# Altium footprint library Connector_FFC-FPC.PcbLib: 184 footprints (part 3 of 12)
Each footprint in its own frame and in the unit in brackets; x right, y up, seen from the top. Pads: shape width x height; smd on the part's side, far side on the other; paste and mask are expansions set on the pad; w line width, h text height; cw(c..) or ccw(c..) is an arc to the next point about the centre after c.
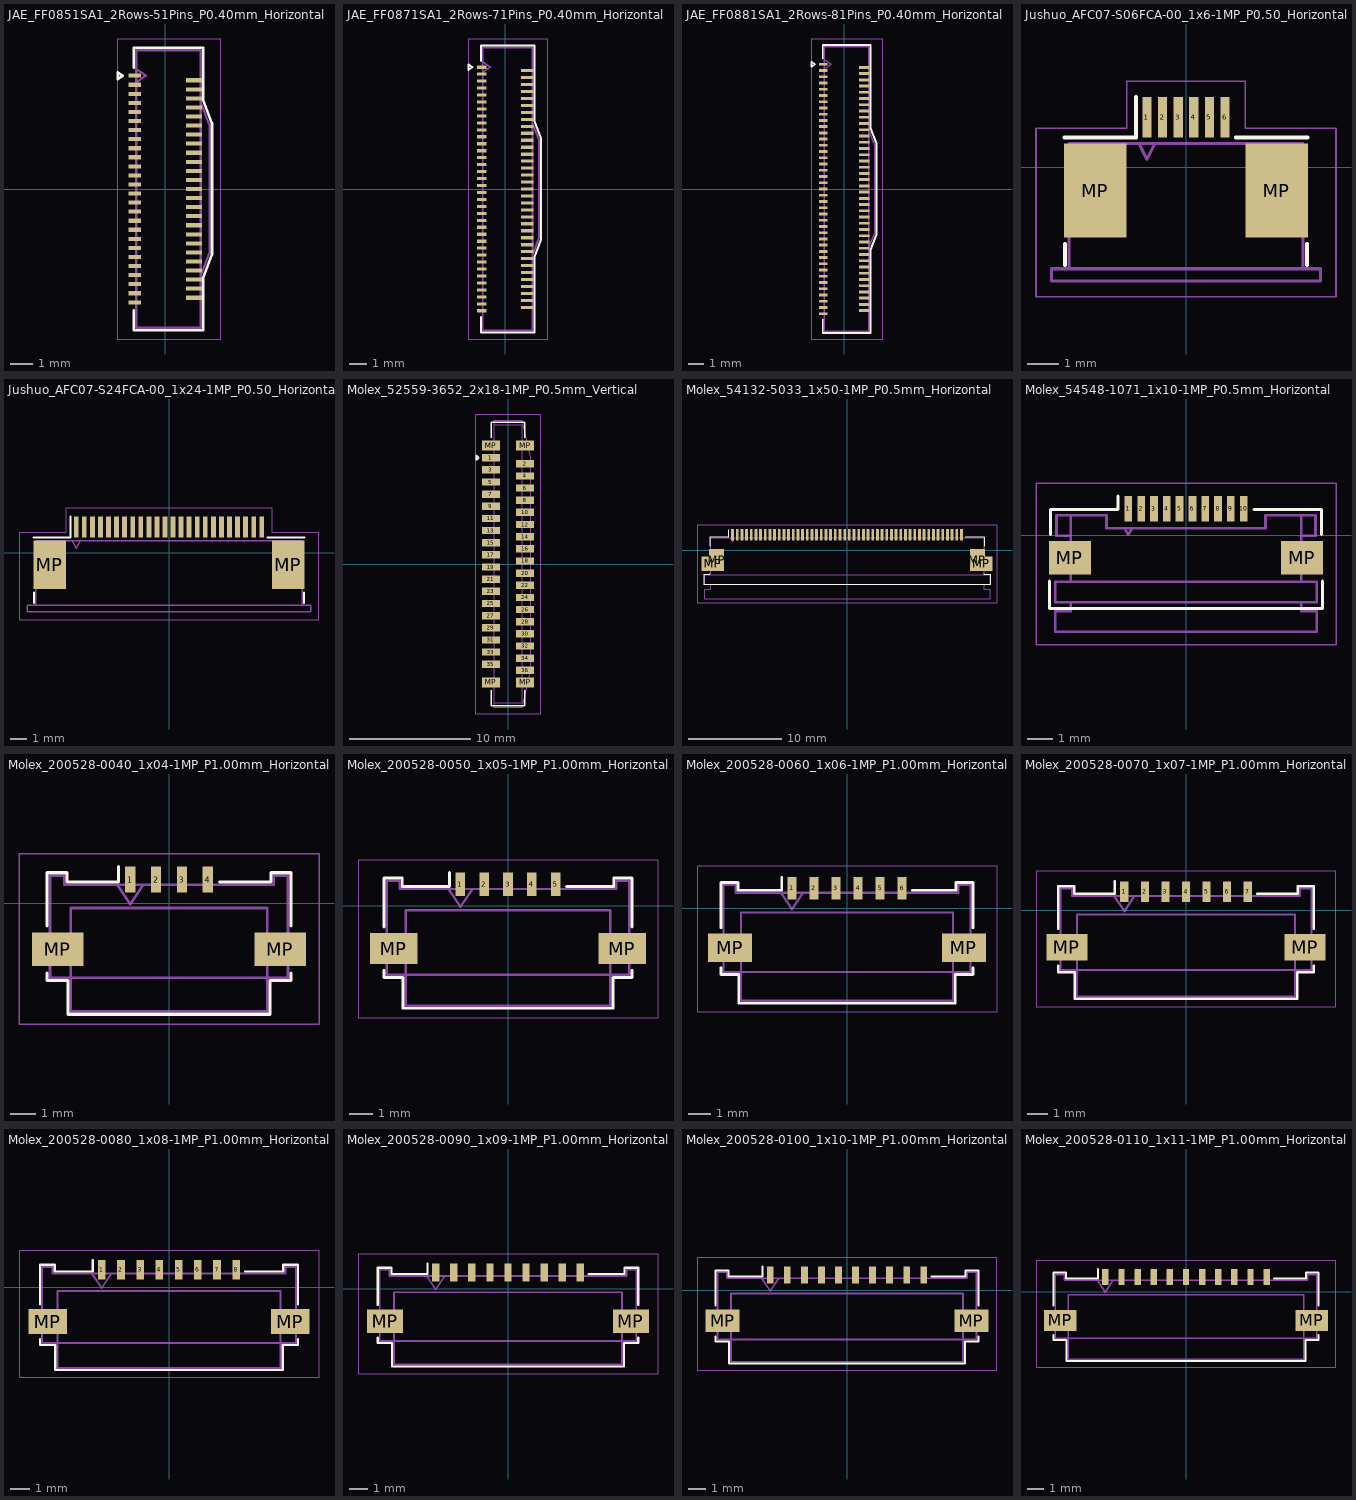
[diagram p2: the footprints below, top view; thin cyan lines are the x and y axes]

## JAE_FF0851SA1_2Rows-51Pins_P0.40mm_Horizontal [mm]
pads (51):
  rect 0.55x0.18 smd: 1(-1.35,5) 3(-1.35,4.6) 5(-1.35,4.2) 7(-1.35,3.8) 9(-1.35,3.4) 11(-1.35,3) 13(-1.35,2.6) 15(-1.35,2.2) 17(-1.35,1.8) 19(-1.35,1.4) 21(-1.35,1) 23(-1.35,0.6) 25(-1.35,0.2) 27(-1.35,-0.2) 29(-1.35,-0.6) 31(-1.35,-1) 33(-1.35,-1.4) 35(-1.35,-1.8) 37(-1.35,-2.2) 39(-1.35,-2.6) 41(-1.35,-3) 43(-1.35,-3.4) 45(-1.35,-3.8) 47(-1.35,-4.2) 49(-1.35,-4.6) 51(-1.35,-5)
  rect 0.7x0.18 smd: 2(1.275,4.8) 4(1.275,4.4) 6(1.275,4) 8(1.275,3.6) 10(1.275,3.2) 12(1.275,2.8) 14(1.275,2.4) 16(1.275,2) 18(1.275,1.6) 20(1.275,1.2) 22(1.275,0.8) 24(1.275,0.4) 26(1.275,0) 28(1.275,-0.4) 30(1.275,-0.8) 32(1.275,-1.2) 34(1.275,-1.6) 36(1.275,-2) 38(1.275,-2.4) 40(1.275,-2.8) 42(1.275,-3.2) 44(1.275,-3.6) 46(1.275,-4) 48(1.275,-4.4) 50(1.275,-4.8)
F.SilkS:
  lines w0.12: -1.385,-5.35 -1.385,-6.235 1.685,-6.235 1.685,-3.91 2.065,-2.91 2.065,0 2.065,2.91 1.685,3.91 1.685,6.235 -1.385,6.235 -1.385,5.35 ; -2.097,4.85 -2.097,5.15 -1.885,5 -2.097,4.85
F.CrtYd:
  lines w0.05: -2.12,-6.62 2.46,-6.62 2.46,6.62 -2.12,6.62 -2.12,-6.62
F.Fab:
  lines w0.1: -1.275,4.7 -0.851,5 -1.275,5.3 ; 1.575,-3.8 1.955,-2.8 1.955,2.8 1.575,3.8 ; -1.275,-6.125 -1.275,6.125 1.575,6.125 1.575,-6.125 -1.275,-6.125
  text "'.Designator'" at 1.62,-2.877 h0.71

## JAE_FF0871SA1_2Rows-71Pins_P0.40mm_Horizontal [mm]
pads (71):
  rect 0.55x0.18 smd: 1(-1.35,7) 3(-1.35,6.6) 5(-1.35,6.2) 7(-1.35,5.8) 9(-1.35,5.4) 11(-1.35,5) 13(-1.35,4.6) 15(-1.35,4.2) 17(-1.35,3.8) 19(-1.35,3.4) 21(-1.35,3) 23(-1.35,2.6) 25(-1.35,2.2) 27(-1.35,1.8) 29(-1.35,1.4) 31(-1.35,1) 33(-1.35,0.6) 35(-1.35,0.2) 37(-1.35,-0.2) 39(-1.35,-0.6) 41(-1.35,-1) 43(-1.35,-1.4) 45(-1.35,-1.8) 47(-1.35,-2.2) 49(-1.35,-2.6) 51(-1.35,-3) 53(-1.35,-3.4) 55(-1.35,-3.8) 57(-1.35,-4.2) 59(-1.35,-4.6) 61(-1.35,-5) 63(-1.35,-5.4) 65(-1.35,-5.8) 67(-1.35,-6.2) 69(-1.35,-6.6) 71(-1.35,-7)
  rect 0.7x0.18 smd: 2(1.275,6.8) 4(1.275,6.4) 6(1.275,6) 8(1.275,5.6) 10(1.275,5.2) 12(1.275,4.8) 14(1.275,4.4) 16(1.275,4) 18(1.275,3.6) 20(1.275,3.2) 22(1.275,2.8) 24(1.275,2.4) 26(1.275,2) 28(1.275,1.6) 30(1.275,1.2) 32(1.275,0.8) 34(1.275,0.4) 36(1.275,0) 38(1.275,-0.4) 40(1.275,-0.8) 42(1.275,-1.2) 44(1.275,-1.6) 46(1.275,-2) 48(1.275,-2.4) 50(1.275,-2.8) 52(1.275,-3.2) 54(1.275,-3.6) 56(1.275,-4) 58(1.275,-4.4) 60(1.275,-4.8) 62(1.275,-5.2) 64(1.275,-5.6) 66(1.275,-6) 68(1.275,-6.4) 70(1.275,-6.8)
F.SilkS:
  lines w0.12: -1.385,-7.35 -1.385,-8.235 1.685,-8.235 1.685,-3.91 2.065,-2.91 2.065,0 2.065,2.91 1.685,3.91 1.685,8.235 -1.385,8.235 -1.385,7.35 ; -2.097,6.85 -2.097,7.15 -1.885,7 -2.097,6.85
F.CrtYd:
  lines w0.05: -2.12,-8.62 -2.12,8.62 2.46,8.62 2.46,-8.62 -2.12,-8.62
F.Fab:
  lines w0.1: -1.275,6.7 -0.851,7 -1.275,7.3 ; 1.575,-3.8 1.955,-2.8 1.955,2.8 1.575,3.8 ; -1.275,-8.125 -1.275,8.125 1.575,8.125 1.575,-8.125 -1.275,-8.125
  text "'.Designator'" at 1.62,-2.877 h0.71

## JAE_FF0881SA1_2Rows-81Pins_P0.40mm_Horizontal [mm]
pads (81):
  rect 0.55x0.18 smd: 1(-1.35,8) 3(-1.35,7.6) 5(-1.35,7.2) 7(-1.35,6.8) 9(-1.35,6.4) 11(-1.35,6) 13(-1.35,5.6) 15(-1.35,5.2) 17(-1.35,4.8) 19(-1.35,4.4) 21(-1.35,4) 23(-1.35,3.6) 25(-1.35,3.2) 27(-1.35,2.8) 29(-1.35,2.4) 31(-1.35,2) 33(-1.35,1.6) 35(-1.35,1.2) 37(-1.35,0.8) 39(-1.35,0.4) 41(-1.35,0) 43(-1.35,-0.4) 45(-1.35,-0.8) 47(-1.35,-1.2) 49(-1.35,-1.6) 51(-1.35,-2) 53(-1.35,-2.4) 55(-1.35,-2.8) 57(-1.35,-3.2) 59(-1.35,-3.6) 61(-1.35,-4) 63(-1.35,-4.4) 65(-1.35,-4.8) 67(-1.35,-5.2) 69(-1.35,-5.6) 71(-1.35,-6) 73(-1.35,-6.4) 75(-1.35,-6.8) 77(-1.35,-7.2) 79(-1.35,-7.6) 81(-1.35,-8)
  rect 0.7x0.18 smd: 2(1.275,7.8) 4(1.275,7.4) 6(1.275,7) 8(1.275,6.6) 10(1.275,6.2) 12(1.275,5.8) 14(1.275,5.4) 16(1.275,5) 18(1.275,4.6) 20(1.275,4.2) 22(1.275,3.8) 24(1.275,3.4) 26(1.275,3) 28(1.275,2.6) 30(1.275,2.2) 32(1.275,1.8) 34(1.275,1.4) 36(1.275,1) 38(1.275,0.6) 40(1.275,0.2) 42(1.275,-0.2) 44(1.275,-0.6) 46(1.275,-1) 48(1.275,-1.4) 50(1.275,-1.8) 52(1.275,-2.2) 54(1.275,-2.6) 56(1.275,-3) 58(1.275,-3.4) 60(1.275,-3.8) 62(1.275,-4.2) 64(1.275,-4.6) 66(1.275,-5) 68(1.275,-5.4) 70(1.275,-5.8) 72(1.275,-6.2) 74(1.275,-6.6) 76(1.275,-7) 78(1.275,-7.4) 80(1.275,-7.8)
F.SilkS:
  lines w0.12: -1.385,-8.35 -1.385,-9.235 1.685,-9.235 1.685,-3.91 2.065,-2.91 2.065,0 2.065,2.91 1.685,3.91 1.685,9.235 -1.385,9.235 -1.385,8.35 ; -2.097,7.85 -2.097,8.15 -1.885,8 -2.097,7.85
F.CrtYd:
  lines w0.05: -2.12,-9.62 -2.12,9.62 2.46,9.62 2.46,-9.62 -2.12,-9.62
F.Fab:
  lines w0.1: -1.275,7.7 -0.851,8 -1.275,8.3 ; 1.575,-3.8 1.955,-2.8 1.955,2.8 1.575,3.8 ; -1.275,-9.125 -1.275,9.125 1.575,9.125 1.575,-9.125 -1.275,-9.125
  text "'.Designator'" at 1.62,-2.877 h0.71

## Jushuo_AFC07-S06FCA-00_1x6-1MP_P0.50_Horizontal [mm]
pads (8):
  rect 0.3x1.3 smd: 1(-1.25,1.6) 2(-0.75,1.6) 3(-0.25,1.6) 4(0.25,1.6) 5(0.75,1.6) 6(1.25,1.6)
  rect 2x3 smd: MP(-2.9,-0.75) MP(2.9,-0.75)
F.SilkS:
  lines w0.12: -3.9,0.95 -1.6,0.95 -1.6,2.25 ; -3.87,-3.13 -3.87,-2.45 ; 1.6,0.95 3.9,0.95 ; 3.87,-3.13 3.87,-2.45
F.CrtYd:
  lines w0.05: -4.8,-4.15 4.8,-4.15 4.8,1.25 1.9,1.25 1.9,2.75 -1.9,2.75 -1.9,1.25 -4.8,1.25 -4.8,-4.15
F.Fab:
  lines w0.1: -1.5,0.75 -1.25,0.25 -1,0.75 ; -3.75,-3.25 3.75,-3.25 ; -3.75,-3.25 -4.3,-3.25 -4.3,-3.65 4.3,-3.65 4.3,-3.25 3.75,-3.25 ; -3.75,-3.25 -3.75,0.75 3.75,0.75 3.75,-3.25
  text "'.Designator'" at -4.047,-2.24 h1

## Jushuo_AFC07-S24FCA-00_1x24-1MP_P0.50_Horizontal [mm]
pads (26):
  rect 0.3x1.3 smd: 1(-5.75,1.6) 2(-5.25,1.6) 3(-4.75,1.6) 4(-4.25,1.6) 5(-3.75,1.6) 6(-3.25,1.6) 7(-2.75,1.6) 8(-2.25,1.6) 9(-1.75,1.6) 10(-1.25,1.6) 11(-0.75,1.6) 12(-0.25,1.6) 13(0.25,1.6) 14(0.75,1.6) 15(1.25,1.6) 16(1.75,1.6) 17(2.25,1.6) 18(2.75,1.6) 19(3.25,1.6) 20(3.75,1.6) 21(4.25,1.6) 22(4.75,1.6) 23(5.25,1.6) 24(5.75,1.6)
  rect 2x3 smd: MP(-7.4,-0.75) MP(7.4,-0.75)
F.SilkS:
  lines w0.12: -8.4,0.95 -6.1,0.95 -6.1,2.25 ; -8.37,-3.13 -8.37,-2.45 ; 6.1,0.95 8.4,0.95 ; 8.37,-3.13 8.37,-2.45
F.CrtYd:
  lines w0.05: -9.3,-4.15 9.3,-4.15 9.3,1.25 6.4,1.25 6.4,2.75 -6.4,2.75 -6.4,1.25 -9.3,1.25 -9.3,-4.15
F.Fab:
  lines w0.1: -6,0.75 -5.75,0.25 -5.5,0.75 ; -8.25,-3.25 8.25,-3.25 ; -8.25,-3.25 -8.8,-3.25 -8.8,-3.65 8.8,-3.65 8.8,-3.25 8.25,-3.25 ; -8.25,-3.25 -8.25,0.75 8.25,0.75 8.25,-3.25
  text "'.Designator'" at -4.047,-2.24 h1

## Molex_52559-3652_2x18-1MP_P0.5mm_Vertical [mm]
pads (40):
  rect 1.5x0.6 smd: 1(-1.4,8.75) 2(1.4,8.25) 3(-1.4,7.75) 4(1.4,7.25) 5(-1.4,6.75) 6(1.4,6.25) 7(-1.4,5.75) 8(1.4,5.25) 9(-1.4,4.75) 10(1.4,4.25) 11(-1.4,3.75) 12(1.4,3.25) 13(-1.4,2.75) 14(1.4,2.25) 15(-1.4,1.75) 16(1.4,1.25) 17(-1.4,0.75) 18(1.4,0.25) 19(-1.4,-0.25) 20(1.4,-0.75) 21(-1.4,-1.25) 22(1.4,-1.75) 23(-1.4,-2.25) 24(1.4,-2.75) 25(-1.4,-3.25) 26(1.4,-3.75) 27(-1.4,-4.25) 28(1.4,-4.75) 29(-1.4,-5.25) 30(1.4,-5.75) 31(-1.4,-6.25) 32(1.4,-6.75) 33(-1.4,-7.25) 34(1.4,-7.75) 35(-1.4,-8.25) 36(1.4,-8.75)
  rect 1.5x0.8 smd: MP(-1.4,-9.75) MP(-1.4,9.75) MP(1.4,-9.75) MP(1.4,9.75)
F.SilkS:
  lines w0.12: -1.38,-10.41 -1.38,-11.68 1.38,-11.68 1.38,-10.41 ; -1.38,10.41 -1.38,11.68 1.38,11.68 1.38,10.41 ; -2.61,8.55 -2.41,8.75 -2.61,8.95 -2.61,8.55
F.CrtYd:
  lines w0.05: -2.65,-12.35 2.65,-12.35 2.65,12.35 -2.65,12.35 -2.65,-12.35
F.Fab:
  lines w0.1: -1.15,-11.45 1.15,-11.45 1.15,11.45 -1.15,11.45 ; -1.15,8.55 -0.9,8.75 -1.15,8.95 ; -1.15,-11.85 -1.15,11.85 1.15,11.85 1.85,8.75 1.85,-8.75 1.15,-11.85 -1.15,-11.85
  text "'.Designator'" at -0.84,4.047 h1

## Molex_54132-5033_1x50-1MP_P0.5mm_Horizontal [mm]
pads (54):
  rect 0.3x1.2 smd: 1(-12.25,1.65) 2(-11.75,1.65) 3(-11.25,1.65) 4(-10.75,1.65) 5(-10.25,1.65) 6(-9.75,1.65) 7(-9.25,1.65) 8(-8.75,1.65) 9(-8.25,1.65) 10(-7.75,1.65) 11(-7.25,1.65) 12(-6.75,1.65) 13(-6.25,1.65) 14(-5.75,1.65) 15(-5.25,1.65) 16(-4.75,1.65) 17(-4.25,1.65) 18(-3.75,1.65) 19(-3.25,1.65) 20(-2.75,1.65) 21(-2.25,1.65) 22(-1.75,1.65) 23(-1.25,1.65) 24(-0.75,1.65) 25(-0.25,1.65) 26(0.25,1.65) 27(0.75,1.65) 28(1.25,1.65) 29(1.75,1.65) 30(2.25,1.65) 31(2.75,1.65) 32(3.25,1.65) 33(3.75,1.65) 34(4.25,1.65) 35(4.75,1.65) 36(5.25,1.65) 37(5.75,1.65) 38(6.25,1.65) 39(6.75,1.65) 40(7.25,1.65) 41(7.75,1.65) 42(8.25,1.65) 43(8.75,1.65) 44(9.25,1.65) 45(9.75,1.65) 46(10.25,1.65) 47(10.75,1.65) 48(11.25,1.65) 49(11.75,1.65) 50(12.25,1.65)
  rect 2.4x1.6 smd: MP(-14.35,-1.45) MP(14.35,-1.45)
  rect 1.6x2.4 smd: MP(-13.95,-1.05) MP(13.95,-1.05)
F.SilkS:
  lines w0.12: -14.71,-2.51 -14.71,-2.59 -15.31,-2.59 -15.31,-3.71 15.31,-3.71 15.31,-2.59 14.71,-2.59 14.71,-2.51 ; -14.71,0.41 -14.71,1.41 -12.66,1.41 -12.66,2.19 ; 12.66,1.41 14.71,1.41 14.71,0.41
F.CrtYd:
  lines w0.05: -16.05,-5.7 -16.05,2.75 16.05,2.75 16.05,-5.7 -16.05,-5.7
F.Fab:
  lines w0.1: -14.65,-3.65 -14.65,-4.2 -15.25,-4.2 -15.25,-5.2 15.25,-5.2 15.25,-4.2 14.65,-4.2 14.65,-3.65 ; -12.5,1.35 -12.25,0.85 -12,1.35 ; -14.65,-2.6 14.65,-2.6 ; -14.65,-2.6 -14.65,-2.65 -15.25,-2.65 -15.25,-3.65 15.25,-3.65 15.25,-2.65 14.65,-2.65 14.65,-2.6 ; -14.65,-2.6 -14.65,1.35 14.65,1.35 14.65,-2.6
  text "'.Designator'" at -4.047,-1.69 h1

## Molex_54548-1071_1x10-1MP_P0.5mm_Horizontal [mm]
pads (12):
  rect 0.3x1 smd: 1(-2.25,1.025) 2(-1.75,1.025) 3(-1.25,1.025) 4(-0.75,1.025) 5(-0.25,1.025) 6(0.25,1.025) 7(0.75,1.025) 8(1.25,1.025) 9(1.75,1.025) 10(2.25,1.025)
  rect 1.65x1.3 smd: MP(-4.525,-0.875) MP(4.525,-0.875)
F.SilkS:
  lines w0.12: -5.33,-1.785 -5.33,-2.855 5.33,-2.855 5.33,-1.785 ; -5.28,0.035 -5.28,1.005 -2.66,1.005 -2.66,1.525 ; 2.66,1.005 5.28,1.005 5.28,0.035
F.CrtYd:
  lines w0.05: -5.85,-4.28 -5.85,2.03 5.85,2.03 5.85,-4.28 -5.85,-4.28
F.Fab:
  lines w0.1: -4.5,-2.625 -4.5,-2.975 -5.1,-2.975 -5.1,-3.775 5.1,-3.775 5.1,-2.975 4.5,-2.975 4.5,-2.625 ; -4.5,-1.825 -4.5,0.775 ; -4.5,-0.025 -5.05,-0.025 -5.05,0.775 -3.1,0.775 -3.1,0.275 3.1,0.275 3.1,0.775 5.05,0.775 5.05,-0.025 4.5,-0.025 ; -2.4,0.275 -2.25,0.025 -2.1,0.275 ; 4.5,-1.825 4.5,0.775 ; -5.1,-2.625 5.1,-2.625 5.1,-1.825 -5.1,-1.825 -5.1,-2.625
  text "'.Designator'" at -4.047,-1.965 h1

## Molex_200528-0040_1x04-1MP_P1.00mm_Horizontal [mm]
pads (6):
  rect 0.4x1 smd: 1(-1.5,0.91) 2(-0.5,0.91) 3(0.5,0.91) 4(1.5,0.91)
  rect 2x1.3 smd: MP(-4.3,-1.79) MP(4.3,-1.79)
F.SilkS:
  lines w0.12: -4.71,-2.7 -4.71,-3 -3.91,-3 -3.91,-4.3 3.91,-4.3 3.91,-3 4.71,-3 4.71,-2.7 ; -4.71,-0.88 -4.71,1.17 -3.94,1.17 -3.94,0.82 -1.96,0.82 -1.96,1.41 ; 1.96,0.82 3.94,0.82 3.94,1.17 4.71,1.17 4.71,-0.88
F.CrtYd:
  lines w0.05: -5.8,-4.69 -5.8,1.91 5.8,1.91 5.8,-4.69 -5.8,-4.69
F.Fab:
  lines w0.1: -2,0.71 -1.5,-0.04 -1,0.71 ; -4.6,-2.89 4.6,-2.89 4.6,1.06 4.05,1.06 4.05,0.71 -4.05,0.71 -4.05,1.06 -4.6,1.06 -4.6,-2.89 ; -3.8,-4.19 -3.8,-0.19 3.8,-0.19 3.8,-4.19 -3.8,-4.19
  text "'.Designator'" at -4.047,-2.23 h1

## Molex_200528-0050_1x05-1MP_P1.00mm_Horizontal [mm]
pads (7):
  rect 0.4x1 smd: 1(-2,0.91) 2(-1,0.91) 3(0,0.91) 4(1,0.91) 5(2,0.91)
  rect 2x1.3 smd: MP(-4.8,-1.79) MP(4.8,-1.79)
F.SilkS:
  lines w0.12: -5.21,-2.7 -5.21,-3 -4.41,-3 -4.41,-4.3 4.41,-4.3 4.41,-3 5.21,-3 5.21,-2.7 ; -5.21,-0.88 -5.21,1.17 -4.44,1.17 -4.44,0.82 -2.46,0.82 -2.46,1.41 ; 2.46,0.82 4.44,0.82 4.44,1.17 5.21,1.17 5.21,-0.88
F.CrtYd:
  lines w0.05: -6.3,-4.69 -6.3,1.91 6.3,1.91 6.3,-4.69 -6.3,-4.69
F.Fab:
  lines w0.1: -2.5,0.71 -2,-0.04 -1.5,0.71 ; -5.1,-2.89 -5.1,1.06 -4.55,1.06 -4.55,0.71 4.55,0.71 4.55,1.06 5.1,1.06 5.1,-2.89 -5.1,-2.89 ; -4.3,-4.19 -4.3,-0.19 4.3,-0.19 4.3,-4.19 -4.3,-4.19
  text "'.Designator'" at -4.047,-2.23 h1

## Molex_200528-0060_1x06-1MP_P1.00mm_Horizontal [mm]
pads (8):
  rect 0.4x1 smd: 1(-2.5,0.91) 2(-1.5,0.91) 3(-0.5,0.91) 4(0.5,0.91) 5(1.5,0.91) 6(2.5,0.91)
  rect 2x1.3 smd: MP(-5.3,-1.79) MP(5.3,-1.79)
F.SilkS:
  lines w0.12: -5.71,-2.7 -5.71,-3 -4.91,-3 -4.91,-4.3 4.91,-4.3 4.91,-3 5.71,-3 5.71,-2.7 ; -5.71,-0.88 -5.71,1.17 -4.94,1.17 -4.94,0.82 -2.96,0.82 -2.96,1.41 ; 2.96,0.82 4.94,0.82 4.94,1.17 5.71,1.17 5.71,-0.88
F.CrtYd:
  lines w0.05: -6.8,-4.69 -6.8,1.91 6.8,1.91 6.8,-4.69 -6.8,-4.69
F.Fab:
  lines w0.1: -3,0.71 -2.5,-0.04 -2,0.71 ; -5.6,-2.89 -5.6,1.06 -5.05,1.06 -5.05,0.71 5.05,0.71 5.05,1.06 5.6,1.06 5.6,-2.89 -5.6,-2.89 ; -4.8,-4.19 -4.8,-0.19 4.8,-0.19 4.8,-4.19 -4.8,-4.19
  text "'.Designator'" at -4.047,-2.23 h1

## Molex_200528-0070_1x07-1MP_P1.00mm_Horizontal [mm]
pads (9):
  rect 0.4x1 smd: 1(-3,0.91) 2(-2,0.91) 3(-1,0.91) 4(0,0.91) 5(1,0.91) 6(2,0.91) 7(3,0.91)
  rect 2x1.3 smd: MP(-5.8,-1.79) MP(5.8,-1.79)
F.SilkS:
  lines w0.12: -6.21,-2.7 -6.21,-3 -5.41,-3 -5.41,-4.3 5.41,-4.3 5.41,-3 6.21,-3 6.21,-2.7 ; -6.21,-0.88 -6.21,1.17 -5.44,1.17 -5.44,0.82 -3.46,0.82 -3.46,1.41 ; 3.46,0.82 5.44,0.82 5.44,1.17 6.21,1.17 6.21,-0.88
F.CrtYd:
  lines w0.05: -7.3,-4.69 7.3,-4.69 7.3,1.91 -7.3,1.91 -7.3,-4.69
F.Fab:
  lines w0.1: -3.5,0.71 -3,-0.04 -2.5,0.71 ; -6.1,-2.89 -6.1,1.06 -5.55,1.06 -5.55,0.71 5.55,0.71 5.55,1.06 6.1,1.06 6.1,-2.89 -6.1,-2.89 ; -5.3,-4.19 5.3,-4.19 5.3,-0.19 -5.3,-0.19 -5.3,-4.19
  text "'.Designator'" at -4.047,-2.23 h1

## Molex_200528-0080_1x08-1MP_P1.00mm_Horizontal [mm]
pads (10):
  rect 0.4x1 smd: 1(-3.5,0.91) 2(-2.5,0.91) 3(-1.5,0.91) 4(-0.5,0.91) 5(0.5,0.91) 6(1.5,0.91) 7(2.5,0.91) 8(3.5,0.91)
  rect 2x1.3 smd: MP(-6.3,-1.79) MP(6.3,-1.79)
F.SilkS:
  lines w0.12: -6.71,-2.7 -6.71,-3 -5.91,-3 -5.91,-4.3 5.91,-4.3 5.91,-3 6.71,-3 6.71,-2.7 ; -6.71,-0.88 -6.71,1.17 -5.94,1.17 -5.94,0.82 -3.96,0.82 -3.96,1.41 ; 3.96,0.82 5.94,0.82 5.94,1.17 6.71,1.17 6.71,-0.88
F.CrtYd:
  lines w0.05: -7.8,-4.69 -7.8,1.91 7.8,1.91 7.8,-4.69 -7.8,-4.69
F.Fab:
  lines w0.1: -4,0.71 -3.5,-0.04 -3,0.71 ; -6.6,-2.89 -6.6,1.06 -6.05,1.06 -6.05,0.71 6.05,0.71 6.05,1.06 6.6,1.06 6.6,-2.89 -6.6,-2.89 ; -5.8,-4.19 5.8,-4.19 5.8,-0.19 -5.8,-0.19 -5.8,-4.19
  text "'.Designator'" at -4.047,-2.23 h1

## Molex_200528-0090_1x09-1MP_P1.00mm_Horizontal [mm]
pads (11):
  rect 0.4x1 smd: 1(-4,0.91) 2(-3,0.91) 3(-2,0.91) 4(-1,0.91) 5(0,0.91) 6(1,0.91) 7(2,0.91) 8(3,0.91) 9(4,0.91)
  rect 2x1.3 smd: MP(-6.8,-1.79) MP(6.8,-1.79)
F.SilkS:
  lines w0.12: -7.21,-2.7 -7.21,-3 -6.41,-3 -6.41,-4.3 6.41,-4.3 6.41,-3 7.21,-3 7.21,-2.7 ; -7.21,-0.88 -7.21,1.17 -6.44,1.17 -6.44,0.82 -4.46,0.82 -4.46,1.41 ; 4.46,0.82 6.44,0.82 6.44,1.17 7.21,1.17 7.21,-0.88
F.CrtYd:
  lines w0.05: -8.3,-4.69 -8.3,1.91 8.3,1.91 8.3,-4.69 -8.3,-4.69
F.Fab:
  lines w0.1: -4.5,0.71 -4,-0.04 -3.5,0.71 ; -7.1,-2.89 7.1,-2.89 7.1,1.06 6.55,1.06 6.55,0.71 -6.55,0.71 -6.55,1.06 -7.1,1.06 -7.1,-2.89 ; -6.3,-4.19 6.3,-4.19 6.3,-0.19 -6.3,-0.19 -6.3,-4.19
  text "'.Designator'" at -4.047,-2.23 h1

## Molex_200528-0100_1x10-1MP_P1.00mm_Horizontal [mm]
pads (12):
  rect 0.4x1 smd: 1(-4.5,0.91) 2(-3.5,0.91) 3(-2.5,0.91) 4(-1.5,0.91) 5(-0.5,0.91) 6(0.5,0.91) 7(1.5,0.91) 8(2.5,0.91) 9(3.5,0.91) 10(4.5,0.91)
  rect 2x1.3 smd: MP(-7.3,-1.79) MP(7.3,-1.79)
F.SilkS:
  lines w0.12: -7.71,-2.7 -7.71,-3 -6.91,-3 -6.91,-4.3 6.91,-4.3 6.91,-3 7.71,-3 7.71,-2.7 ; -7.71,-0.88 -7.71,1.17 -6.94,1.17 -6.94,0.82 -4.96,0.82 -4.96,1.41 ; 4.96,0.82 6.94,0.82 6.94,1.17 7.71,1.17 7.71,-0.88
F.CrtYd:
  lines w0.05: -8.8,-4.69 8.8,-4.69 8.8,1.91 -8.8,1.91 -8.8,-4.69
F.Fab:
  lines w0.1: -5,0.71 -4.5,-0.04 -4,0.71 ; -7.6,-2.89 7.6,-2.89 7.6,1.06 7.05,1.06 7.05,0.71 -7.05,0.71 -7.05,1.06 -7.6,1.06 -7.6,-2.89 ; -6.8,-4.19 6.8,-4.19 6.8,-0.19 -6.8,-0.19 -6.8,-4.19
  text "'.Designator'" at -4.047,-2.23 h1

## Molex_200528-0110_1x11-1MP_P1.00mm_Horizontal [mm]
pads (13):
  rect 0.4x1 smd: 1(-5,0.91) 2(-4,0.91) 3(-3,0.91) 4(-2,0.91) 5(-1,0.91) 6(0,0.91) 7(1,0.91) 8(2,0.91) 9(3,0.91) 10(4,0.91) 11(5,0.91)
  rect 2x1.3 smd: MP(-7.8,-1.79) MP(7.8,-1.79)
F.SilkS:
  lines w0.12: -8.21,-2.7 -8.21,-3 -7.41,-3 -7.41,-4.3 7.41,-4.3 7.41,-3 8.21,-3 8.21,-2.7 ; -8.21,-0.88 -8.21,1.17 -7.44,1.17 -7.44,0.82 -5.46,0.82 -5.46,1.41 ; 5.46,0.82 7.44,0.82 7.44,1.17 8.21,1.17 8.21,-0.88
F.CrtYd:
  lines w0.05: -9.3,-4.69 9.3,-4.69 9.3,1.91 -9.3,1.91 -9.3,-4.69
F.Fab:
  lines w0.1: -5.5,0.71 -5,-0.04 -4.5,0.71 ; -8.1,-2.89 -8.1,1.06 -7.55,1.06 -7.55,0.71 7.55,0.71 7.55,1.06 8.1,1.06 8.1,-2.89 -8.1,-2.89 ; -7.3,-4.19 -7.3,-0.19 7.3,-0.19 7.3,-4.19 -7.3,-4.19
  text "'.Designator'" at -4.047,-2.23 h1